# EAGLE library part TPS56220 (library dword1511-pmic-dcdc)
4.5-V to 17-V Input, 2-A Synchronous Step-Down Voltage Regulator
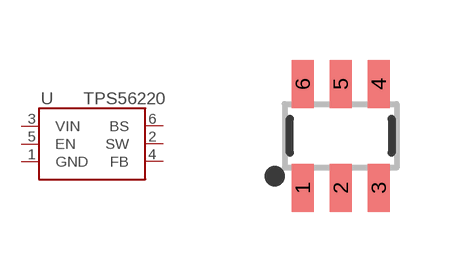
[diagram p28: symbol with the pads of SOT-23-6; footprint SOT-23-6]

Designator prefix U

## TPS562201DDC, TPS562208DDC, TPS562209DDC  [SOT-23-6]
1  GND  pwr
2  SW  out
3  VIN  pwr
4  FB  in
5  EN  in
6  BS  out

## Footprint SOT-23-6 (pad centres in mm)
smd 0.55 x 1.2: 1 -0.95,-1.3; 2 0,-1.3; 3 0.95,-1.3; 4 0.95,1.3; 5 0,1.3; 6 -0.95,1.3